# Altium schematic symbol library MIC5365-3P0YC5-TR.SchLib: 2 symbols
Pins are listed as number, name and electrical type; pins without a type are passive.

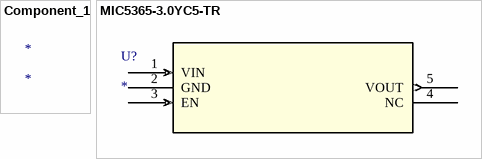
[diagram p0: symbols Component_1 to MIC5365-3.0YC5-TR]

## Component_1
designator *

## MIC5365-3.0YC5-TR
designator U?
No Description Available; Mfr_Name: Microchip; RefDes: RefDes; Type: Type
footprint SC-70_C5_MCH
pins: 1 VIN (in), 2 GND (power), 3 EN (in), 4 NC, 5 VOUT (out)